# Altium schematic symbol library SCH - MCU - TI - TI MSPM0L110X SOT-16 DYY.SchLib: 1 symbol
Pins are listed as number, name and electrical type; pins without a type are passive.

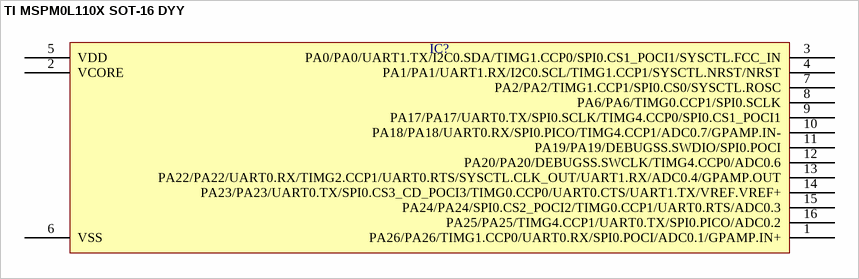
[diagram p0: symbol TI MSPM0L110X SOT-16 DYY]

## TI MSPM0L110X SOT-16 DYY
designator IC?  (value not drawn)
pins: 1 PA26/PA26/TIMG1.CCP0/UART0.RX/SPI0.POCI/ADC0.1/GPAMP.IN+, 2 VCORE, 3 PA0/PA0/UART1.TX/I2C0.SDA/TIMG1.CCP0/SPI0.CS1_POCI1/SYSCTL.FCC_IN, 4 PA1/PA1/UART1.RX/I2C0.SCL/TIMG1.CCP1/SYSCTL.NRST/NRST, 5 VDD, 6 VSS, 7 PA2/PA2/TIMG1.CCP1/SPI0.CS0/SYSCTL.ROSC, 8 PA6/PA6/TIMG0.CCP1/SPI0.SCLK, 9 PA17/PA17/UART0.TX/SPI0.SCLK/TIMG4.CCP0/SPI0.CS1_POCI1, 10 PA18/PA18/UART0.RX/SPI0.PICO/TIMG4.CCP1/ADC0.7/GPAMP.IN-, 11 PA19/PA19/DEBUGSS.SWDIO/SPI0.POCI, 12 PA20/PA20/DEBUGSS.SWCLK/TIMG4.CCP0/ADC0.6, 13 PA22/PA22/UART0.RX/TIMG2.CCP1/UART0.RTS/SYSCTL.CLK_OUT/UART1.RX/ADC0.4/GPAMP.OUT, 14 PA23/PA23/UART0.TX/SPI0.CS3_CD_POCI3/TIMG0.CCP0/UART0.CTS/UART1.TX/VREF.VREF+, 15 PA24/PA24/SPI0.CS2_POCI2/TIMG0.CCP1/UART0.RTS/ADC0.3, 16 PA25/PA25/TIMG4.CCP1/UART0.TX/SPI0.PICO/ADC0.2